# Altium footprint library relay.PcbLib: 40 footprints (part 1 of 3)
Each footprint in its own frame and in the unit in brackets; x right, y up, seen from the top. Pads: shape width x height; smd on the part's side, far side on the other; paste and mask are expansions set on the pad; w line width, h text height; cw(c..) or ccw(c..) is an arc to the next point about the centre after c.
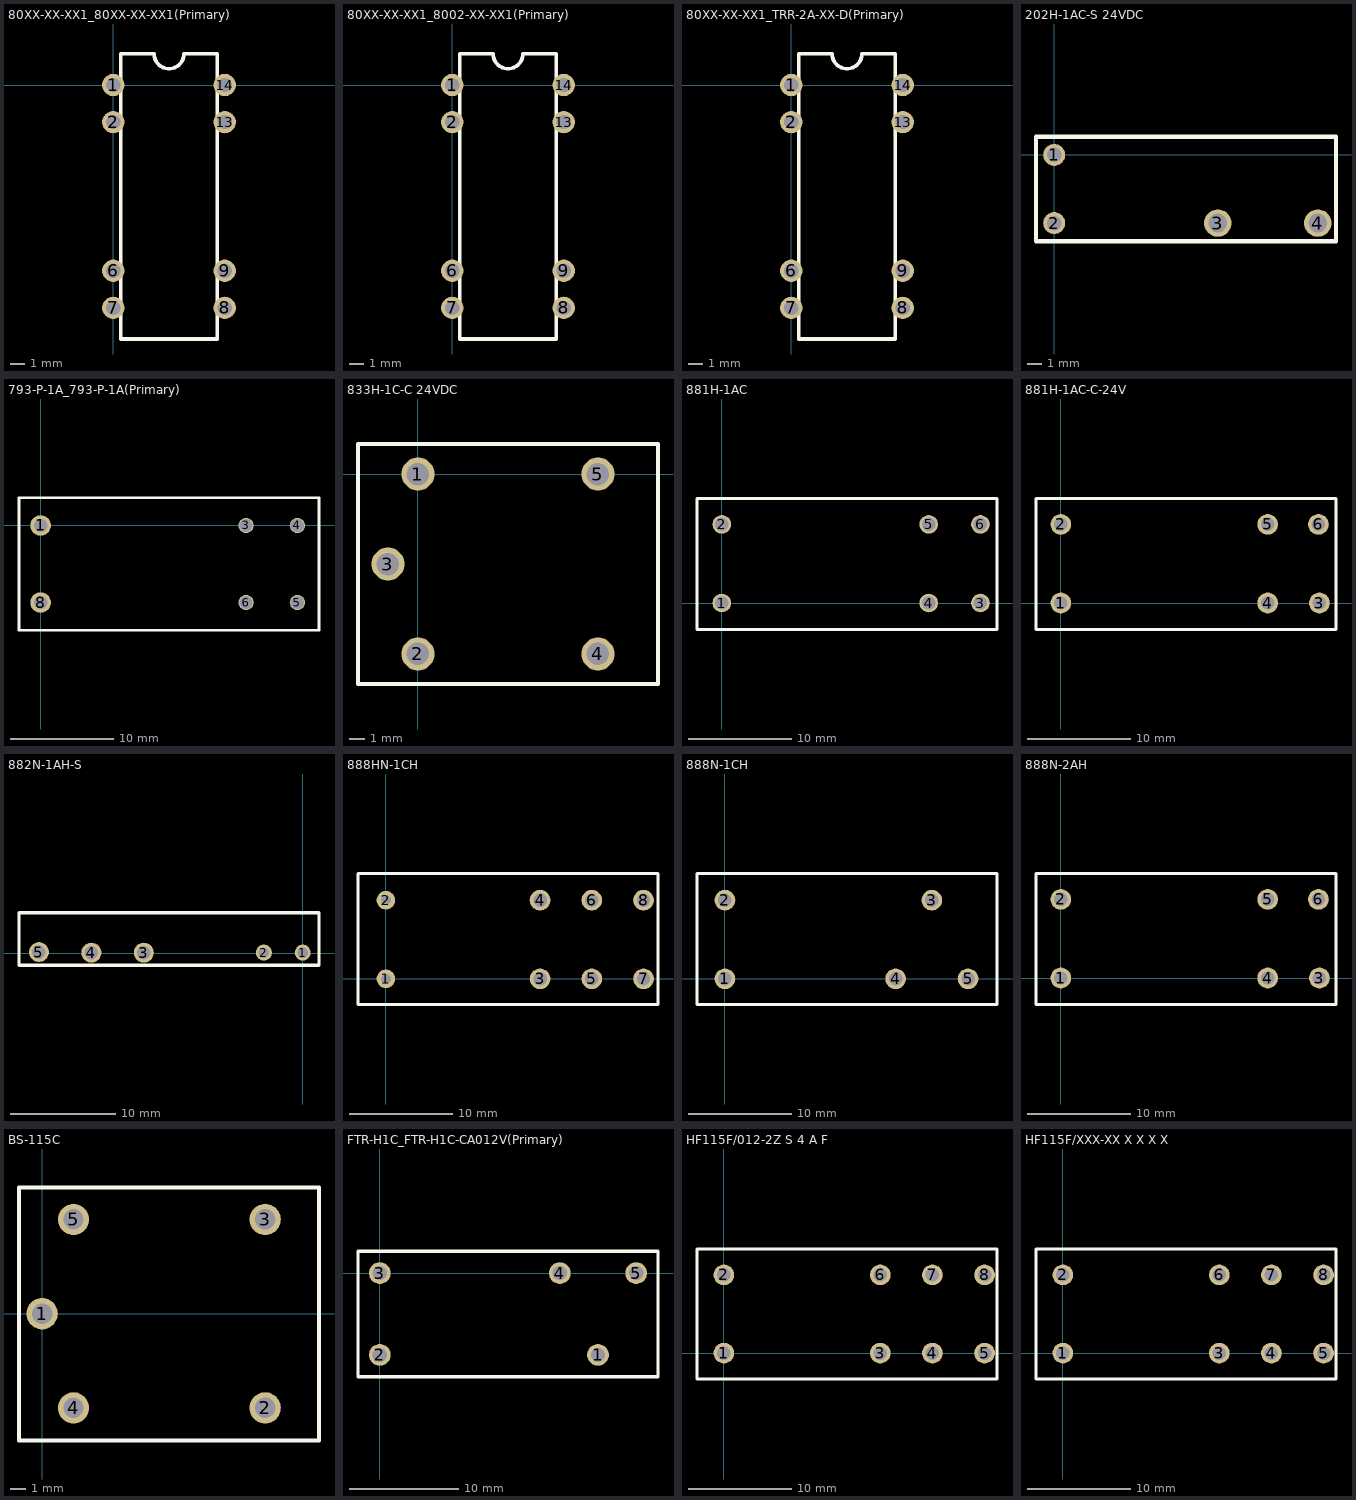
[diagram p0: the footprints below, top view; thin cyan lines are the x and y axes]

## 80XX-XX-XX1_80XX-XX-XX1(Primary) [mil]
pads (8):
  round 60 hole 38: 1(0,0) 2(0,-100) 6(0,-500) 7(0,-600) 8(300,-600) 9(300,-500) 13(300,-100) 14(300,0)
Top Overlay:
  lines w10: 20.47,-683.86 279.53,-683.86 279.53,83.86 190,83.86 cw(c150,83.86) 110,83.86 20.47,83.86 20.47,-683.86

## 80XX-XX-XX1_8002-XX-XX1(Primary) [mil]
pads (8):
  round 60 hole 38: 1(0,0) 2(0,-100) 6(0,-500) 7(0,-600) 8(300,-600) 9(300,-500) 13(300,-100) 14(300,0)
Top Overlay:
  lines w10: 20.47,-683.86 279.53,-683.86 279.53,83.86 190,83.86 cw(c150,83.86) 110,83.86 20.47,83.86 20.47,-683.86

## 80XX-XX-XX1_TRR-2A-XX-D(Primary) [mil]
pads (8):
  round 60 hole 38: 1(0,0) 2(0,-100) 6(0,-500) 7(0,-600) 8(300,-600) 9(300,-500) 13(300,-100) 14(300,0)
Top Overlay:
  lines w10: 20.47,-683.86 279.53,-683.86 279.53,83.86 190,83.86 cw(c150,83.86) 110,83.86 20.47,83.86 20.47,-683.86

## 202H-1AC-S 24VDC [mm]
pads (4):
  round 1.524 hole 1: 1(0,0) 2(0,-4.725)
  round 1.9 hole 1.3: 3(11.34,-4.725) 4(18.27,-4.725)
Top Overlay:
  lines w0.3: -1.26,-5.985 19.53,-5.985 19.53,1.26 -1.26,1.26 -1.26,-5.985

## 793-P-1A_793-P-1A(Primary) [mm]
pads (6):
  round 2 hole 1.3: 1(0,0) 8(0,-7.5)
  round 1.5 hole 1.3: 3(20,0) 4(25,0) 5(25,-7.5) 6(20,-7.5)
Top Overlay:
  lines w0.25: -2.1,-10.2 27.1,-10.2 27.1,2.7 -2.1,2.7 -2.1,-10.2

## 833H-1C-C 24VDC [mm]
pads (5):
  round 2.2 hole 1.5: 1(0,0) 2(0,-12) 3(-2,-6) 4(12,-12) 5(12,0)
Top Overlay:
  lines w0.3: -4,-14 16,-14 16,2 -4,2 -4,-14

## 881H-1AC [mm]
pads (6):
  round 1.8 hole 1.3: 1(0,0) 2(0,7.6) 3(25,0) 4(20,0) 5(20,7.6) 6(25,7.6)
Top Overlay:
  lines w0.3: -2.4,-2.58 -2.4,10.12 26.6,10.12 26.6,-2.58 -2.3,-2.58
3D body "FTR-K1.sldprt": height 15.7, standoff -3.3, extent -2.562,-2.54 26.438,10.16

## 881H-1AC-C-24V [mm]
pads (6):
  round 2 hole 1.3: 1(0,0) 2(0,7.6) 3(25,0) 4(20,0) 5(20,7.6) 6(24.9,7.6)
Top Overlay:
  lines w0.3: -2.4,-2.58 -2.4,10.12 26.6,10.12 26.6,-2.58 -2.3,-2.58
3D body "FTR-K1.sldprt": height 15.7, standoff -3.3, extent -2.54,-2.54 26.46,10.16

## 882N-1AH-S [mm]
pads (5):
  round 1.524 hole 1: 1(0,0.05) 2(-3.7,0.05)
  round 1.9 hole 1.3: 3(-15.15,0.05) 4(-20.15,0.05) 5(-25.15,0.1)
Top Overlay:
  lines w0.3: -27.05,-1.15 1.55,-1.15 1.55,3.85 -27.05,3.85 -27.05,-1.15

## 888HN-1CH [mm]
pads (8):
  round 1.8 hole 0.965: 1(0,0) 2(0,7.6)
  round 2 hole 1.3: 3(14.9,0) 4(14.9,7.6) 5(19.9,0) 6(19.9,7.6) 7(24.9,0) 8(24.9,7.6)
Top Overlay:
  lines w0.3: -2.7,-2.5 -2.7,10.2 26.3,10.2 26.3,-2.5 -2.6,-2.5

## 888N-1CH [mm]
pads (5):
  round 2 hole 1.3: 1(0,0) 2(0,7.6) 3(20,7.6) 4(16.5,0) 5(23.5,0)
Top Overlay:
  lines w0.3: -2.7,-2.5 -2.7,10.2 26.3,10.2 26.3,-2.5 -2.6,-2.5

## 888N-2AH [mm]
pads (6):
  round 2 hole 1.3: 1(0,0) 2(0,7.6) 3(25,0) 4(20,0) 5(20,7.6) 6(24.9,7.6)
Top Overlay:
  lines w0.3: -2.4,-2.58 -2.4,10.12 26.6,10.12 26.6,-2.58 -2.3,-2.58

## BS-115C [mm]
pads (5):
  round 2 hole 1.3: 1(0,0) 2(14.2,-6) 3(14.2,6) 4(2,-6) 5(2,6)
Top Overlay:
  lines w0.254: -1.47,-8.07 17.63,-8.07 17.63,8.03 -1.47,8.03 -1.47,-8.07

## FTR-H1C_FTR-H1C-CA012V(Primary) [mm]
pads (5):
  round 2 hole 1.3: 1(20,-7.5) 2(0,-7.5) 3(0,0) 4(16.5,0) 5(23.5,0)
Top Overlay:
  lines w0.3: -2,-9.5 25.5,-9.5 25.5,2 -2,2 -2,-9.5

## HF115F/012-2Z S 4 A F [mm]
pads (8):
  round 2 hole 1.3: 1(0,0) 2(0,7.56) 3(15.12,0) 4(20.16,0) 5(25.2,0) 6(15.12,7.56) 7(20.16,7.56) 8(25.2,7.56)
Top Overlay:
  lines w0.3: -2.6,-2.52 -2.6,10.08 26.4,10.08 26.4,-2.52 -2.6,-2.52

## HF115F/XXX-XX X X X X [mm]
pads (8):
  round 2 hole 1.3: 1(0,0) 2(0,7.56) 3(15.12,0) 4(20.16,0) 5(25.2,0) 6(15.12,7.56) 7(20.16,7.56) 8(25.2,7.56)
Top Overlay:
  lines w0.3: -2.6,-2.52 26.4,-2.52 26.4,10.08 -2.6,10.08 -2.6,-2.52